# Altium footprint library CF_ESP32_S3_CAM_BOARD.PcbLib: 1 footprints
Each footprint in its own frame and in the unit in brackets; x right, y up, seen from the top. Pads: shape width x height; smd on the part's side, far side on the other; paste and mask are expansions set on the pad; w line width, h text height; cw(c..) or ccw(c..) is an arc to the next point about the centre after c.
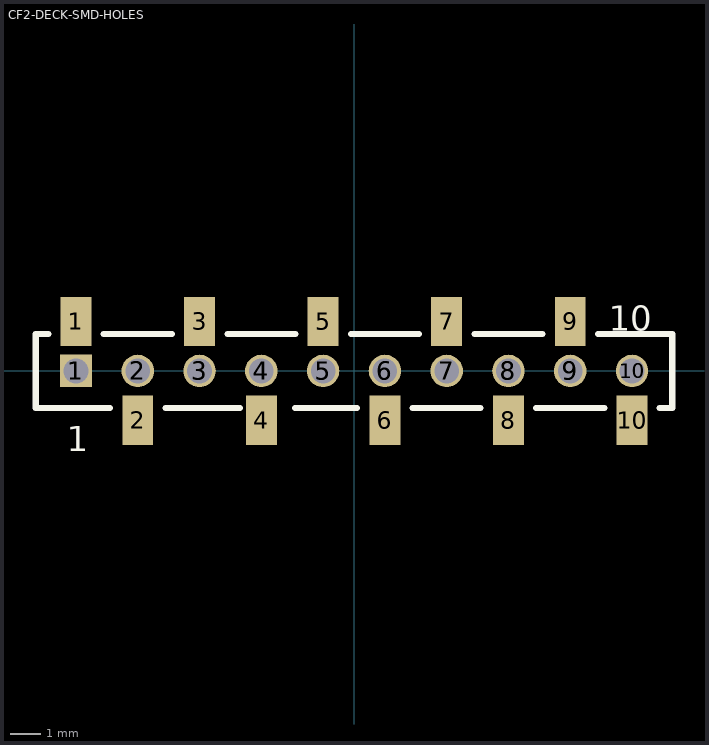
[diagram p0: the footprint, top view; thin cyan lines are the x and y axes]

## CF2-DECK-SMD-HOLES [mm]
pads (30):
  rect 1.05x1.05 hole 0.8: 1(-9,0)
  round 1.05 smd: 1(-9,0) 2(-7,0) 3(-5,0) 4(-3,0) 5(-1,0) 6(1,0) 7(3,0) 8(5,0) 9(7,0) 10(9,0)
  rect 1x1.6 smd: 1(-9,1.6) 2(-7,-1.6) 3(-5,1.6) 4(-3,-1.6) 5(-1,1.6) 6(1,-1.6) 7(3,1.6) 8(5,-1.6) 9(7,1.6) 10(9,-1.6)
  round 1.05 hole 0.8: 2(-7,0) 3(-5,0) 4(-3,0) 5(-1,0) 6(1,0) 7(3,0) 8(5,0) 9(7,0) 10(9,0)
F.SilkS:
  lines w0.2: -9.9,1.2 -10.3,1.2 -10.3,-1.2 -7.9,-1.2 ; -8.1,1.2 -5.9,1.2 ; -6.1,-1.2 -3.7,-1.2 ; -4.1,1.2 -1.9,1.2 ; -1.9,-1.2 0.1,-1.2 ; -0.1,1.2 2.1,1.2 ; 1.9,-1.2 4.1,-1.2 ; 3.9,1.2 6.1,1.2 ; 5.9,-1.2 8.1,-1.2 ; 7.9,1.2 10.3,1.2 10.3,-1.2 9.9,-1.2
  text "10" at 8.24,1.3 h0.8
  text "1" at -9.295,-2.6 h0.8